# Altium footprint library PcbLib1.PcbLib: 6 footprints
Each footprint in its own frame and in the unit in brackets; x right, y up, seen from the top. Pads: shape width x height; smd on the part's side, far side on the other; paste and mask are expansions set on the pad; w line width, h text height; cw(c..) or ccw(c..) is an arc to the next point about the centre after c.
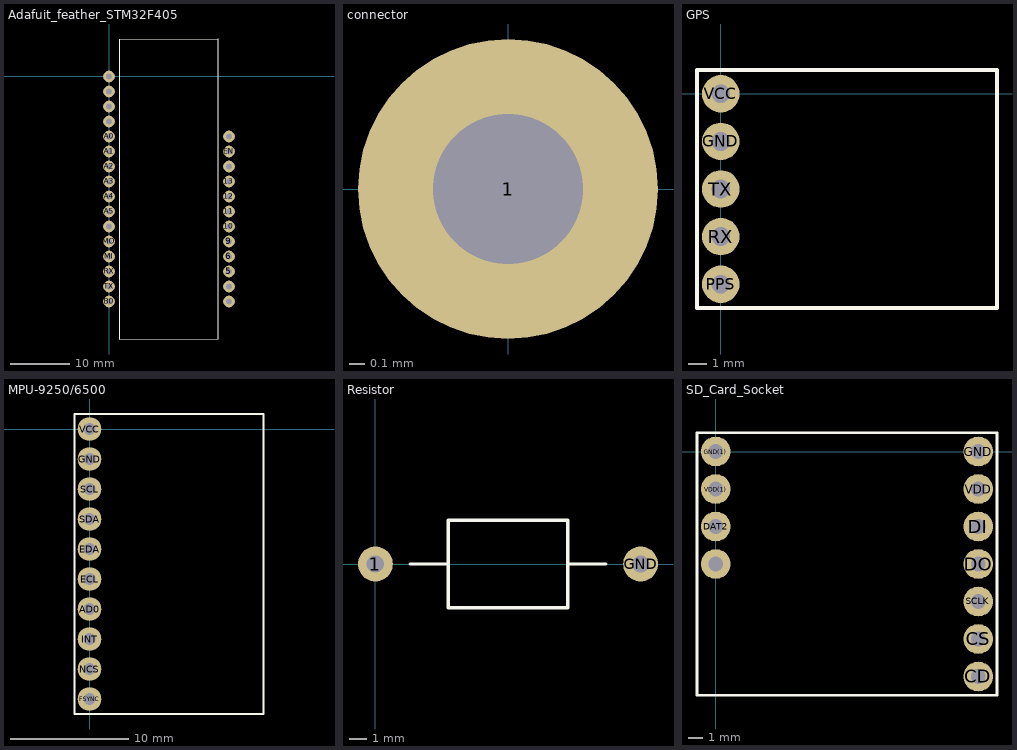
[diagram p0: the footprints below, top view; thin cyan lines are the x and y axes]

## Adafuit_feather_STM32F405 [mm]
pads (28):
  round 2 hole 1: 3.3V(0,-2.54) 3.3V(1)(0,-5.08) 5(20.32,-33.02) 6(20.32,-30.48) 9(20.32,-27.94) 10(20.32,-25.4) 11(20.32,-22.86) 12(20.32,-20.32) 13(20.32,-17.78) A0(0,-10.16) A1(0,-12.7) A2(0,-15.24) A3(0,-17.78) A4(0,-20.32) A5(0,-22.86) B0(0,-38.1) BAT(20.32,-10.16) EN(20.32,-12.7) GND(0,-7.62) MI(0,-30.48) MO(0,-27.94) RST(0,0) RX(0,-33.02) SCK(0,-25.4) SCL(20.32,-35.56) SDA(20.32,-38.1) TX(0,-35.56) USB(20.32,-15.24)
Top Overlay:
  lines w0.2: 1.835,-44.45 18.485,-44.45 18.485,6.35 1.835,6.35 1.835,-44.45

## connector [mm]
pads (1):
  round 2 hole 1: 1(0,0)

## GPS [mm]
pads (5):
  round 2 hole 1: GND(0,-2.54) PPS(0,-10.16) RX(0,-7.62) TX(0,-5.08) VCC(0,0)
Top Overlay:
  lines w0.2: -1.27,-11.43 -1.27,1.27 14.732,1.27 14.732,-11.43 -1.27,-11.43

## MPU-9250/6500 [mm]
pads (10):
  round 2 hole 1: AD0(0,-15.24) ECL(0,-12.7) EDA(0,-10.16) FSYNC(0,-22.86) GND(0,-2.54) INT(0,-17.78) NCS(0,-20.32) SCL(0,-5.08) SDA(0,-7.62) VCC(0,0)
Top Overlay:
  lines w0.2: -1.27,-24.13 -1.27,1.27 14.732,1.27 14.732,-24.13 -1.27,-24.13

## Resistor [mm]
pads (2):
  round 2 hole 1: 1(0,0) GND(15.2,0)
Top Overlay:
  lines w0.2: 2,0 4.175,0 ; 11.025,0 13.2,0 ; 4.175,0 4.175,-2.5 11.025,-2.5 11.025,2.5 4.175,2.5 4.175,0

## SD_Card_Socket [mm]
pads (11):
  round 2 hole 1: CD(17.78,-15.24) CS(17.78,-12.7) DAT1/IRQ(0,-7.62) DAT2(0,-5.08) DI(17.78,-5.08) DO(17.78,-7.62) GND(17.78,0) GND(1)(0,0) SCLK(17.78,-10.16) VDD(17.78,-2.54) VDD(1)(0,-2.54)
Top Overlay:
  lines w0.2: -1.27,-16.51 19.05,-16.51 19.05,1.27 -1.27,1.27 -1.27,-16.51